# Altium schematic symbol library SIGNAL.SchLib: 6 symbols
Pins are listed as number, name and electrical type; pins without a type are passive.

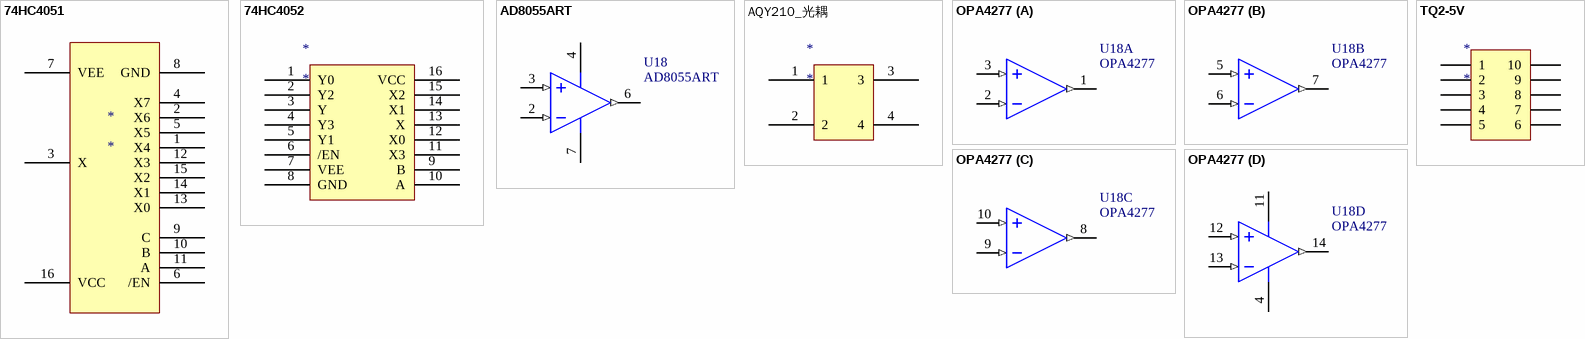
[diagram p0: symbols 74HC4051 to TQ2-5V]

## 74HC4051
designator *
footprint SOP-16 (SOP, 16-Leads, Body 10.0x8.9mm (max), Pitch 1.27mm, IPC Medium Density)
pins: 1 X4, 2 X6, 3 X, 4 X7, 5 X5, 6 /EN, 7 VEE, 8 GND, 9 C, 10 B, 11 A, 12 X3, 13 X0, 14 X1, 15 X2, 16 VCC

## 74HC4052
designator *
footprint SOP-16 (SOP, 16-Leads, Body 10.0x8.9mm (max), Pitch 1.27mm, IPC Medium Density)
pins: 1 Y0, 2 Y2, 3 Y, 4 Y3, 5 Y1, 6 /EN, 7 VEE, 8 GND, 9 B, 10 A, 11 X3, 12 X0, 13 X, 14 X1, 15 X2, 16 VCC

## AD8055ART
designator U18
Low Cost, 300MHz Voltage Feedback Amplifier; Text Field7: Published 8-Jun-2000
footprint SOP-8 (SOP, 8-Leads, Body 4.9x3.9mm (max), Pitch 1.27mm, IPC Medium Density)
pins: 2 IN- (in), 3 IN+ (in), 4 V- (power), 6 OUT (out), 7 V+ (power)

## AQY210_光耦
designator *
AQY210
footprint SOT254P605X218-4N (SOT143, 4-Leads, Body 4.3x6.1mm (max), Pitch 2.54mm, IPC Medium Density)
pins: 1, 2, 3, 4

## OPA4277
designator U18
High Precision Operational Amplifiers; Text Field7: Published 8-Jun-2000
footprint SO-14
part A pins: 1 OUT (out), 2 IN- (in), 3 IN+ (in)
part B pins: 5 IN+ (in), 6 IN- (in), 7 OUT (out)
part C pins: 8 OUT (out), 9 IN- (in), 10 IN+ (in)
part D pins: 4 V+ (power), 11 V- (power), 12 IN+ (in), 13 IN- (in), 14 OUT (out)

## TQ2-5V
designator *
footprint TQ2-5V
pins: 1, 2, 3, 4, 5, 6, 7, 8, 9, 10